# Altium footprint library TAIYO-YUDEN_LSQPA251818T100M.PcbLib: 1 footprints
Each footprint in its own frame and in the unit in brackets; x right, y up, seen from the top. Pads: shape width x height; smd on the part's side, far side on the other; paste and mask are expansions set on the pad; w line width, h text height; cw(c..) or ccw(c..) is an arc to the next point about the centre after c.
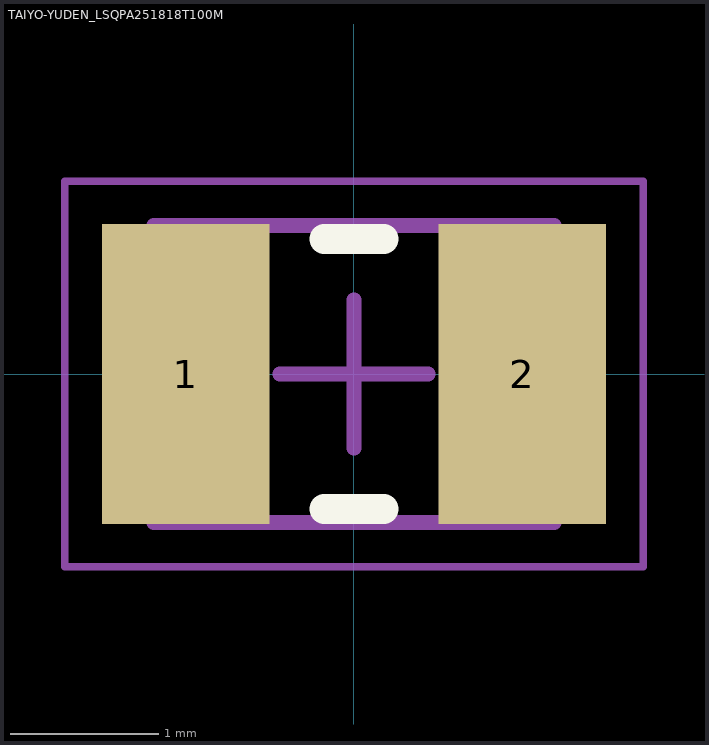
[diagram p0: the footprint, top view; thin cyan lines are the x and y axes]

## TAIYO-YUDEN_LSQPA251818T100M [mm]
height 2
pads (2):
  rect 1.13x2.02 smd: 1(-1.135,0) 2(1.135,0)
Top Overlay:
  lines w0.2: -0.2,-0.91 0.2,-0.91 ; -0.2,0.91 0.2,0.91
Mechanical 13:
  lines w0.1: -1.35,-1 1.35,-1 1.35,1 -1.35,1 -1.35,-1
Mechanical 15:
  lines w0.05: -1.95,-1.3 1.95,-1.3 1.95,1.3 -1.95,1.3 -1.95,-1.3
  lines w0.1: -0.5,0 0.5,0 ; 0,-0.5 0,0.5
3D body: height 2, standoff 0, extent -1.35,-1 1.35,1